# Altium footprint library LINUX.PcbLib: 113 footprints (part 3 of 8)
Each footprint in its own frame and in the unit in brackets; x right, y up, seen from the top. Pads: shape width x height; smd on the part's side, far side on the other; paste and mask are expansions set on the pad; w line width, h text height; cw(c..) or ccw(c..) is an arc to the next point about the centre after c.
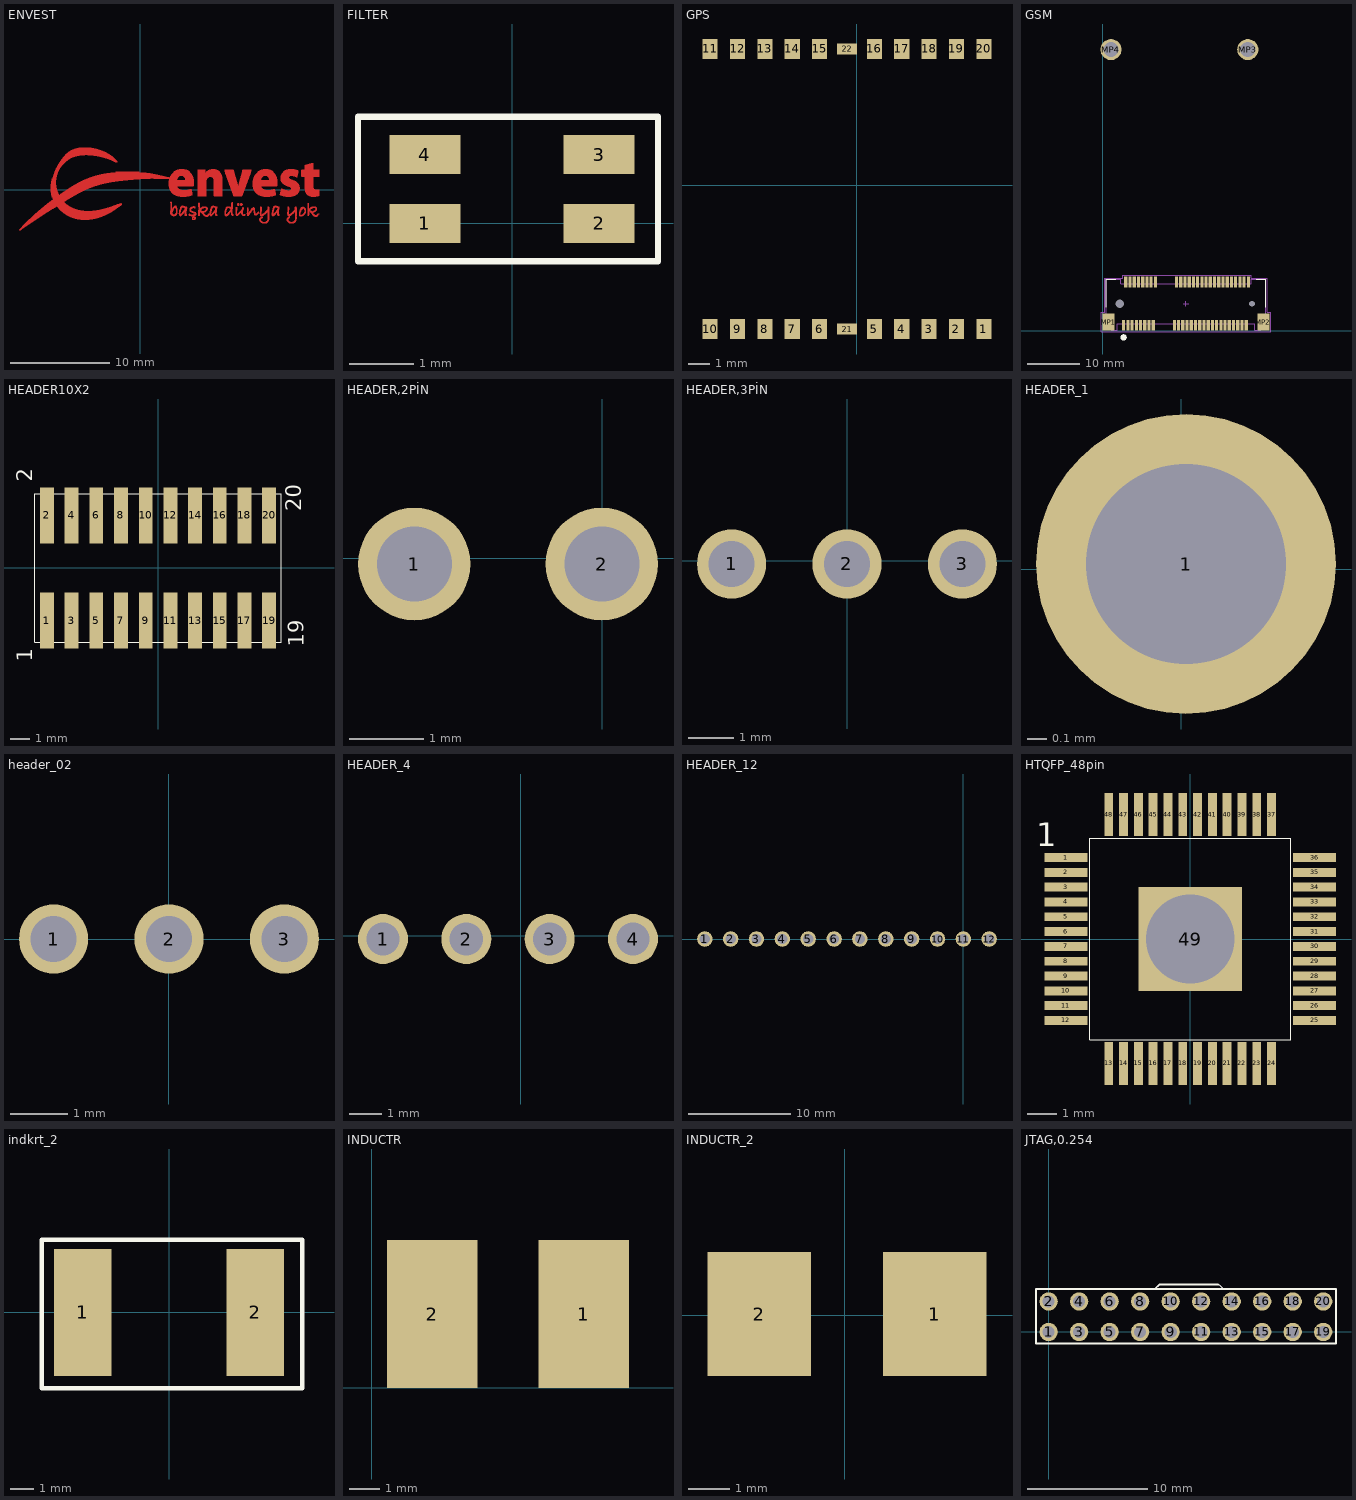
[diagram p2: the footprints below, top view; thin cyan lines are the x and y axes]

## ENVEST [mm]
Top Layer:
  lines w0.051: -12.193,-4.029 -12.041,-4.029 ; -12.142,-3.978 -11.99,-3.978 ; -12.091,-3.928 -11.939,-3.928 ; -12.041,-3.877 -11.888,-3.877 ; -11.99,-3.826 -11.787,-3.826 ; -11.939,-3.775 -11.736,-3.775 ; -11.888,-3.724 -11.634,-3.724 ; -11.888,-3.674 -11.583,-3.674 ; -11.837,-3.623 -11.482,-3.623 ; -11.787,-3.572 -11.431,-3.572 ; -11.736,-3.521 -11.329,-3.521 ; -11.685,-3.47 -11.279,-3.47 ; -11.634,-3.42 -11.177,-3.42 ; -11.583,-3.369 -11.126,-3.369 ; -11.533,-3.318 -11.025,-3.318 ; -11.482,-3.267 -10.974,-3.267 ; -11.431,-3.216 -10.872,-3.216 ; -11.38,-3.166 -10.821,-3.166 ; -11.329,-3.115 -10.72,-3.115 ; -11.279,-3.064 -10.669,-3.064 ; -11.228,-3.013 -10.567,-3.013 ; -11.177,-2.962 -10.517,-2.962 ; -11.075,-2.912 -10.415,-2.912 ; -11.025,-2.861 -10.364,-2.861 ; -10.974,-2.81 -10.263,-2.81 ; -10.923,-2.759 -10.212,-2.759 ; -10.872,-2.708 -10.11,-2.708 ; -10.821,-2.658 -10.059,-2.658 ; -10.771,-2.607 -9.958,-2.607 ; -10.72,-2.556 -9.907,-2.556 ; -10.669,-2.505 -9.805,-2.505 ; -10.618,-2.454 -9.755,-2.454 ; -10.567,-2.404 -9.653,-2.404 ; -10.517,-2.353 -9.602,-2.353 ; -10.415,-2.302 -9.501,-2.302 ; -10.364,-2.251 -9.45,-2.251 ; -10.313,-2.2 -9.348,-2.2 ; -10.263,-2.15 -9.247,-2.15 ; -10.212,-2.099 -9.196,-2.099 ; -10.161,-2.048 -9.094,-2.048 ; -10.059,-1.997 -9.043,-1.997 ; -10.009,-1.946 -8.942,-1.946 ; -9.958,-1.896 -8.891,-1.896 ; -9.907,-1.845 -8.789,-1.845 ; -9.856,-1.794 -8.739,-1.794 ; -9.755,-1.743 -8.637,-1.743 ; -9.704,-1.692 -8.535,-1.692 ; -9.653,-1.642 -8.485,-1.642 ; -9.602,-1.591 -7.215,-1.591 ; -9.551,-1.54 -7.316,-1.54 ; -9.45,-1.489 -7.367,-1.489 ; -9.399,-1.438 -7.469,-1.438 ; -9.348,-1.388 -7.519,-1.388 ; -9.297,-1.337 -7.57,-1.337 ; -9.196,-1.286 -7.621,-1.286 ; -9.145,-1.235 -7.672,-1.235 ; -9.094,-1.184 -7.723,-1.184 ; -8.993,-1.134 -7.672,-1.134 ; -8.993,-0.168 -8.332,-0.168 ; -8.993,-0.118 -8.383,-0.118 ; -8.993,-0.067 -8.383,-0.067 ; -8.993,-0.016 -8.383,-0.016 ; -8.993,0.035 -8.434,0.035 ; -8.993,0.086 -8.434,0.086 ; -8.993,0.136 -8.434,0.136 ; -8.993,0.187 -8.434,0.187 ; -8.993,0.238 -8.485,0.238 ; -8.993,0.289 -8.485,0.289 ; -8.993,0.34 -8.485,0.34 ; -8.993,0.39 -8.485,0.39 ; -8.993,0.441 -8.485,0.441 ; -8.993,0.492 -8.485,0.492 ; -8.993,0.543 -8.535,0.543 ; -8.993,0.594 -8.535,0.594 ; -8.942,-1.083 -7.57,-1.083 ; -8.942,-0.473 -8.231,-0.473 ; -8.942,-0.422 -8.231,-0.422 ; -8.942,-0.372 -8.281,-0.372 ; -8.942,-0.321 -8.281,-0.321 ; -8.942,-0.27 -8.281,-0.27 ; -8.942,-0.219 -8.332,-0.219 ; -8.942,0.644 -8.535,0.644 ; -8.942,0.695 -8.535,0.695 ; -8.942,0.746 -8.535,0.746 ; -8.942,0.797 -8.535,0.797 ; -8.942,0.848 -8.535,0.848 ; -8.942,0.898 -8.535,0.898 ; -8.891,-1.032 -7.519,-1.032 ; -8.891,-0.676 -6.91,-0.676 ; -8.891,-0.626 -6.808,-0.626 ; -8.891,-0.575 -6.757,-0.575 ; -8.891,-0.524 -6.656,-0.524 ; -8.891,0.949 -8.535,0.949 ; -8.891,1 -8.535,1 ; -8.891,1.051 -8.535,1.051 ; -8.891,1.102 -8.485,1.102 ; -8.891,1.152 -8.485,1.152 ; -8.84,-0.981 -7.418,-0.981 ; -8.84,-0.829 -7.164,-0.829 ; -8.84,-0.778 -7.113,-0.778 ; -8.84,-0.727 -7.011,-0.727 ; -8.84,1.203 -8.485,1.203 ; -8.84,1.254 -8.485,1.254 ; -8.84,1.305 -8.485,1.305 ; -8.789,-0.93 -7.367,-0.93 ; -8.789,-0.88 -7.265,-0.88 ; -8.789,1.356 -8.485,1.356 ; -8.789,1.406 -8.434,1.406 ; -8.789,1.457 -8.434,1.457 ; -8.739,1.508 -8.434,1.508 ; -8.739,1.559 -8.434,1.559 ; -8.739,1.61 -8.383,1.61 ; -8.688,1.66 -8.383,1.66 ; -8.688,1.711 -8.383,1.711 ; -8.688,1.762 -8.332,1.762 ; -8.637,1.813 -8.332,1.813 ; -8.637,1.864 -8.281,1.864 ; -8.586,1.914 -8.281,1.914 ; -8.586,1.965 -8.231,1.965 ; -8.535,2.016 -8.231,2.016 ; -8.535,2.067 -8.18,2.067 ; -8.535,2.118 -8.18,2.118 ; -8.485,2.168 -8.129,2.168 ; -8.434,2.219 -8.129,2.219 ; -8.434,2.27 -8.078,2.27 ; -8.383,-1.642 -7.164,-1.642 ; -8.383,2.321 -8.027,2.321 ; -8.383,2.372 -7.977,2.372 ; -8.332,-1.692 -7.062,-1.692 ; -8.332,2.422 -7.977,2.422 ; -8.332,2.473 -7.926,2.473 ; -8.281,-1.743 -6.961,-1.743 ; -8.281,2.524 -7.875,2.524 ; -8.281,2.575 -7.824,2.575 ; -8.231,-1.845 -6.757,-1.845 ; -8.231,-1.794 -6.859,-1.794 ; -8.231,2.626 -7.773,2.626 ; -8.18,-1.896 -6.605,-1.896 ; -8.18,2.676 -7.723,2.676 ; -8.18,2.727 -7.672,2.727 ; -8.129,-1.946 -6.453,-1.946 ; -8.129,-0.473 -6.554,-0.473 ; -8.129,2.778 -7.621,2.778 ; -8.078,-1.997 -6.3,-1.997 ; -8.078,-0.422 -6.453,-0.422 ; -8.078,2.829 -7.57,2.829 ; -8.078,2.88 -7.519,2.88 ; -8.027,-2.048 -6.046,-2.048 ; -8.027,-0.372 -6.402,-0.372 ; -8.027,2.93 -7.469,2.93 ; -7.977,-2.099 -5.691,-2.099 ; -7.977,2.981 -7.367,2.981 ; -7.977,3.032 -7.316,3.032 ; -7.926,-0.321 -6.3,-0.321 ; -7.926,3.083 -7.265,3.083 ; -7.875,-2.15 -2.846,-2.15 ; -7.875,-0.27 -6.199,-0.27 ; -7.875,3.134 -7.164,3.134 ; -7.824,-2.2 -2.897,-2.2 ; -7.824,3.184 -7.113,3.184 ; -7.824,3.235 -7.011,3.235 ; -7.773,-2.251 -2.998,-2.251 ; -7.773,-0.219 -6.097,-0.219 ; -7.773,3.286 -6.91,3.286 ; -7.723,-2.302 -3.1,-2.302 ; -7.723,-0.168 -5.995,-0.168 ; -7.723,3.337 -6.757,3.337 ; -7.672,3.388 -6.605,3.388 ; -7.621,-2.353 -3.201,-2.353 ; -7.621,-0.118 -5.894,-0.118 ; -7.621,3.438 -6.402,3.438 ; -7.57,-2.404 -3.303,-2.404 ; -7.57,-0.067 -5.792,-0.067 ; -7.57,3.489 -6.148,3.489 ; -7.57,3.54 -5.589,3.54 ; -7.519,3.591 -3.1,3.591 ; -7.469,-2.454 -3.405,-2.454 ; -7.469,-0.016 -5.691,-0.016 ; -7.469,3.642 -3.201,3.642 ; -7.418,-2.505 -3.506,-2.505 ; -7.418,0.035 -5.589,0.035 ; -7.367,3.692 -3.303,3.692 ; -7.316,-2.556 -3.608,-2.556 ; -7.316,0.086 -5.487,0.086 ; -7.316,3.743 -3.354,3.743 ; -7.265,0.136 -5.335,0.136 ; -7.265,3.794 -3.455,3.794 ; -7.215,-2.607 -3.76,-2.607 ; -7.215,3.845 -3.557,3.845 ; -7.164,0.187 -5.233,0.187 ; -7.113,-2.658 -3.862,-2.658 ; -7.113,0.238 -5.132,0.238 ; -7.113,3.896 -3.709,3.896 ; -7.062,3.946 -3.811,3.946 ; -7.011,-2.708 -4.014,-2.708 ; -7.011,0.289 -4.979,0.289 ; -6.961,0.34 -4.827,0.34 ; -6.961,3.997 -3.963,3.997 ; -6.859,-2.759 -4.167,-2.759 ; -6.859,0.39 -4.725,0.39 ; -6.859,4.048 -4.116,4.048 ; -6.757,0.441 -4.573,0.441 ; -6.707,-2.81 -4.319,-2.81 ; -6.707,0.492 -4.37,0.492 ; -6.707,4.099 -4.268,4.099 ; -6.605,0.543 -4.217,0.543 ; -6.605,4.15 -4.421,4.15 ; -6.554,-2.861 -4.522,-2.861 ; -6.503,0.594 -4.065,0.594 ; -6.402,0.644 -3.862,0.644 ; -6.402,4.2 -4.675,4.2 ; -6.351,-2.912 -4.776,-2.912 ; -6.351,0.695 -3.659,0.695 ; -6.249,0.746 -3.405,0.746 ; -6.199,4.251 -4.929,4.251 ; -6.148,0.797 -3.151,0.797 ; -6.046,0.848 -2.897,0.848 ; -5.995,-2.962 -5.132,-2.962 ; -5.945,0.898 -2.541,0.898 ; -5.843,0.949 -2.185,0.949 ; -5.741,1 -1.779,1 ; -5.64,1.051 -1.271,1.051 ; -5.487,1.102 -0.712,1.102 ; -5.386,1.152 -0.001,1.152 ; -5.284,3.54 -3.049,3.54 ; -5.233,1.203 1.015,1.203 ; -5.132,1.254 2.945,1.254 ; -4.979,1.305 2.895,1.305 ; -4.827,1.356 2.641,1.356 ; -4.776,-2.099 -2.744,-2.099 ; -4.675,1.406 2.437,1.406 ; -4.675,3.489 -2.947,3.489 ; -4.522,1.457 2.234,1.457 ; -4.37,-2.048 -2.693,-2.048 ; -4.319,1.508 1.98,1.508 ; -4.319,3.438 -2.897,3.438 ; -4.116,1.559 1.777,1.559 ; -4.065,-1.997 -2.592,-1.997 ; -4.065,3.388 -2.795,3.388 ; -3.913,1.61 1.523,1.61 ; -3.862,-1.946 -2.541,-1.946 ; -3.862,3.337 -2.744,3.337 ; -3.659,-1.896 -2.439,-1.896 ; -3.659,1.66 1.269,1.66 ; -3.659,3.286 -2.693,3.286 ; -3.506,3.235 -2.643,3.235 ; -3.455,-1.845 -2.389,-1.845 ; -3.354,1.711 1.015,1.711 ; -3.303,-1.794 -2.338,-1.794 ; -3.303,3.184 -2.592,3.184 ; -3.151,3.134 -2.541,3.134 ; -3.1,-1.743 -2.236,-1.743 ; -3.049,3.083 -2.49,3.083 ; -2.947,-1.692 -2.185,-1.692 ; -2.947,1.762 0.609,1.762 ; -2.897,3.032 -2.439,3.032 ; -2.795,-1.642 -2.135,-1.642 ; -2.795,2.981 -2.389,2.981 ; -2.693,-1.591 -2.084,-1.591 ; -2.693,2.93 -2.338,2.93 ; -2.592,2.88 -2.287,2.88 ; -2.541,-1.54 -1.982,-1.54 ; -2.49,2.829 -2.287,2.829 ; -2.439,1.813 -0.103,1.813 ; -2.389,-1.489 -1.931,-1.489 ; -2.287,-1.438 -1.881,-1.438 ; -2.135,-1.388 -1.881,-1.388 ; -1.982,-1.337 -1.931,-1.337 ; 1.371,1.203 2.895,1.203 ; 2.895,0.441 5.333,0.441 ; 2.895,0.492 5.384,0.492 ; 2.895,0.543 5.384,0.543 ; 2.895,0.594 5.384,0.594 ; 2.895,0.644 5.384,0.644 ; 2.895,0.695 5.384,0.695 ; 2.895,0.746 5.384,0.746 ; 2.895,0.797 5.384,0.797 ; 2.895,0.848 5.384,0.848 ; 2.895,0.898 5.384,0.898 ; 2.895,0.949 5.384,0.949 ; 2.945,0.238 3.809,0.238 ; 2.945,0.289 3.758,0.289 ; 2.945,0.34 3.758,0.34 ; 2.945,0.39 3.707,0.39 ; 2.945,1 5.384,1 ; 2.945,1.051 3.707,1.051 ; 2.945,1.102 3.707,1.102 ; 2.945,1.152 3.758,1.152 ; 2.996,0.086 4.012,0.086 ; 2.996,0.136 3.911,0.136 ; 2.996,0.187 3.86,0.187 ; 2.996,1.203 3.758,1.203 ; 2.996,1.254 3.809,1.254 ; 2.996,1.305 3.809,1.305 ; 3.047,-2.353 3.25,-2.353 ; 3.047,-2.302 3.25,-2.302 ; 3.047,-2.251 3.25,-2.251 ; 3.047,-2.2 3.25,-2.2 ; 3.047,-2.15 3.301,-2.15 ; 3.047,-2.099 3.301,-2.099 ; 3.047,-1.235 3.199,-1.235 ; 3.047,-0.016 5.181,-0.016 ; 3.047,0.035 4.165,0.035 ; 3.047,1.356 3.86,1.356 ; 3.047,1.406 3.911,1.406 ; 3.098,-2.454 3.352,-2.454 ; 3.098,-2.404 3.301,-2.404 ; 3.098,-2.048 3.352,-2.048 ; 3.098,-1.997 3.199,-1.997 ; 3.098,-1.946 3.199,-1.946 ; 3.098,-1.896 3.199,-1.896 ; 3.098,-1.845 3.199,-1.845 ; 3.098,-1.794 3.199,-1.794 ; 3.098,-1.743 3.199,-1.743 ; 3.098,-1.692 3.199,-1.692 ; 3.098,-1.642 3.199,-1.642 ; 3.098,-1.591 3.199,-1.591 ; 3.098,-1.54 3.199,-1.54 ; 3.098,-1.489 3.199,-1.489 ; 3.098,-1.438 3.199,-1.438 ; 3.098,-1.388 3.199,-1.388 ; 3.098,-1.337 3.199,-1.337 ; 3.098,-1.286 3.199,-1.286 ; 3.098,-1.184 3.149,-1.184 ; 3.098,-0.067 5.181,-0.067 ; 3.098,1.457 3.961,1.457 ; 3.149,-0.168 5.181,-0.168 ; 3.149,-0.118 5.181,-0.118 ; 3.149,1.508 5.231,1.508 ; 3.149,1.559 5.181,1.559 ; 3.199,-2.556 3.606,-2.556 ; 3.199,-2.505 3.657,-2.505 ; 3.199,-0.219 5.231,-0.219 ; 3.199,1.61 5.181,1.61 ; 3.25,-1.997 3.352,-1.997 ; 3.25,-1.946 3.352,-1.946 ; 3.25,-1.896 3.403,-1.896 ; 3.25,-0.27 5.231,-0.27 ; 3.25,1.66 5.13,1.66 ; 3.301,-1.845 3.403,-1.845 ; 3.301,-1.794 3.453,-1.794 ; 3.301,-0.321 5.231,-0.321 ; 3.301,1.711 5.079,1.711 ; 3.352,-2.607 3.453,-2.607 ; 3.352,-1.743 3.504,-1.743 ; 3.352,-0.372 5.231,-0.372 ; 3.352,1.762 5.028,1.762 ; 3.403,-1.692 3.707,-1.692 ; 3.403,1.813 4.977,1.813 ; 3.453,-1.642 3.657,-1.642 ; 3.453,-0.422 5.231,-0.422 ; 3.453,1.864 4.927,1.864 ; 3.504,-2.454 3.707,-2.454 ; 3.504,-1.591 3.657,-1.591 ; 3.555,-2.404 3.707,-2.404 ; 3.555,-1.743 3.707,-1.743 ; 3.555,-0.473 5.231,-0.473 ; 3.555,1.914 4.876,1.914 ; 3.606,-2.353 3.758,-2.353 ; 3.606,-1.845 3.758,-1.845 ; 3.606,-1.794 3.707,-1.794 ; 3.657,-2.302 3.758,-2.302 ; 3.657,-2.251 3.758,-2.251 ; 3.657,-2.2 3.758,-2.2 ; 3.657,-2.15 3.758,-2.15 ; 3.657,-2.099 3.758,-2.099 ; 3.657,-2.048 3.758,-2.048 ; 3.657,-1.997 3.758,-1.997 ; 3.657,-1.946 3.758,-1.946 ; 3.657,-1.896 3.758,-1.896 ; 3.657,-0.524 5.079,-0.524 ; 3.657,1.965 4.774,1.965 ; 3.758,2.016 4.673,2.016 ; 3.809,-0.575 4.927,-0.575 ; 3.911,-2.353 4.063,-2.353 ; 3.961,-2.505 4.215,-2.505 ; 3.961,-2.454 4.266,-2.454 ; 3.961,-2.404 4.063,-2.404 ; 3.961,-2.302 4.063,-2.302 ; 3.961,-2.251 4.063,-2.251 ; 3.961,-2.2 4.063,-2.2 ; 3.961,-2.15 4.114,-2.15 ; 3.961,-2.099 4.114,-2.099 ; 3.961,-2.048 4.114,-2.048 ; 3.961,2.067 4.469,2.067 ; 4.012,-2.556 4.165,-2.556 ; 4.012,-1.997 4.114,-1.997 ; 4.012,-1.946 4.165,-1.946 ; 4.063,-2.607 4.114,-2.607 ; 4.063,-1.896 4.165,-1.896 ; 4.063,-1.845 4.165,-1.845 ; 4.063,-1.794 4.215,-1.794 ; 4.063,-1.743 4.266,-1.743 ; 4.063,-0.626 4.622,-0.626 ; 4.114,-1.692 4.673,-1.692 ; 4.165,-2.404 4.317,-2.404 ; 4.165,-1.642 4.52,-1.642 ; 4.215,-2.353 4.368,-2.353 ; 4.215,-1.591 4.368,-1.591 ; 4.266,-2.302 4.419,-2.302 ; 4.266,-2.251 4.419,-2.251 ; 4.317,-2.2 4.469,-2.2 ; 4.368,-2.15 4.622,-2.15 ; 4.368,1.457 5.231,1.457 ; 4.419,-2.099 4.622,-2.099 ; 4.419,-2.048 4.673,-2.048 ; 4.419,-1.743 4.673,-1.743 ; 4.419,1.406 5.282,1.406 ; 4.469,-1.997 4.673,-1.997 ; 4.469,1.356 5.282,1.356 ; 4.52,-2.556 4.673,-2.556 ; 4.52,-2.505 4.673,-2.505 ; 4.52,-2.454 4.673,-2.454 ; 4.52,-2.404 4.622,-2.404 ; 4.52,-2.353 4.622,-2.353 ; 4.52,-2.302 4.622,-2.302 ; 4.52,-2.251 4.622,-2.251 ; 4.52,-2.2 4.622,-2.2 ; 4.52,-1.946 4.673,-1.946 ; 4.52,-1.896 4.673,-1.896 ; 4.52,-1.794 4.723,-1.794 ; 4.52,1.305 5.333,1.305 ; 4.571,-1.845 4.673,-1.845 ; 4.571,1.051 5.384,1.051 ; 4.571,1.102 5.384,1.102 ; 4.571,1.152 5.333,1.152 ; 4.571,1.203 5.333,1.203 ; 4.571,1.254 5.333,1.254 ; 4.774,0.035 5.181,0.035 ; 4.876,-2.505 5.587,-2.505 ; 4.876,-2.454 5.028,-2.454 ; 4.927,-2.556 5.536,-2.556 ; 4.927,-2.404 4.977,-2.404 ; 4.977,-2.099 5.181,-2.099 ; 4.977,-2.048 5.079,-2.048 ; 4.977,-1.997 5.079,-1.997 ; 4.977,-1.946 5.079,-1.946 ; 4.977,-1.896 5.13,-1.896 ; 4.977,-1.845 5.181,-1.845 ; 4.977,0.086 5.13,0.086 ; 5.028,-2.15 5.282,-2.15 ; 5.028,-1.794 5.282,-1.794 ; 5.079,-1.743 5.536,-1.743 ; 5.13,-2.607 5.181,-2.607 ; 5.13,-2.2 5.435,-2.2 ; 5.181,-1.692 5.536,-1.692 ; 5.231,-2.962 5.485,-2.962 ; 5.231,-2.912 5.587,-2.912 ; 5.231,-2.81 5.282,-2.81 ; 5.231,-2.759 5.587,-2.759 ; 5.231,-2.708 5.536,-2.708 ; 5.231,-2.251 5.587,-2.251 ; 5.282,-2.658 5.435,-2.658 ; 5.282,-2.607 5.384,-2.607 ; 5.333,-2.302 5.587,-2.302 ; 5.333,-1.642 5.435,-1.642 ; 5.384,-2.454 5.638,-2.454 ; 5.435,-2.861 5.587,-2.861 ; 5.435,-1.794 5.536,-1.794 ; 5.485,-2.81 5.587,-2.81 ; 5.485,-2.353 5.638,-2.353 ; 5.536,-2.404 5.638,-2.404 ; 5.79,-0.575 6.654,-0.575 ; 5.79,-0.524 6.654,-0.524 ; 5.79,-0.473 6.654,-0.473 ; 5.79,-0.422 6.654,-0.422 ; 5.79,-0.372 6.654,-0.372 ; 5.79,-0.321 6.654,-0.321 ; 5.79,-0.27 6.654,-0.27 ; 5.79,-0.219 6.654,-0.219 ; 5.79,-0.168 6.654,-0.168 ; 5.79,-0.118 6.654,-0.118 ; 5.79,-0.067 6.654,-0.067 ; 5.79,-0.016 6.654,-0.016 ; 5.79,0.035 6.654,0.035 ; 5.79,0.086 6.654,0.086 ; 5.79,0.136 6.654,0.136 ; 5.79,0.187 6.654,0.187 ; 5.79,0.238 6.654,0.238 ; 5.79,0.289 6.654,0.289 ; 5.79,0.34 6.654,0.34 ; 5.79,0.39 6.654,0.39 ; 5.79,0.441 6.654,0.441 ; 5.79,0.492 6.654,0.492 ; 5.79,0.543 6.654,0.543 ; 5.79,0.594 6.654,0.594 ; 5.79,0.644 6.654,0.644 ; 5.79,0.695 6.654,0.695 ; 5.79,0.746 6.654,0.746 ; 5.79,0.797 6.654,0.797 ; 5.79,0.848 6.654,0.848 ; 5.79,0.898 6.654,0.898 ; 5.79,0.949 6.654,0.949 ; 5.79,1 6.654,1 ; 5.79,1.051 6.654,1.051 ; 5.79,1.102 6.705,1.102 ; 5.79,1.152 6.705,1.152 ; 5.79,1.203 6.755,1.203 ; 5.79,1.254 6.755,1.254 ; 5.79,1.305 6.857,1.305 ; 5.79,1.356 6.908,1.356 ; 5.79,1.406 8.229,1.406 ; 5.79,1.457 8.229,1.457 ; 5.79,1.508 8.229,1.508 ; 5.79,1.559 8.178,1.559 ; 5.79,1.61 8.178,1.61 ; 5.79,1.66 8.127,1.66 ; 5.79,1.711 8.127,1.711 ; 5.79,1.762 6.552,1.762 ; 5.79,1.813 6.552,1.813 ; 5.79,1.864 6.552,1.864 ; 5.79,1.914 6.552,1.914 ; 5.79,1.965 6.552,1.965 ; 5.79,2.016 6.552,2.016 ; 5.841,-2.556 5.993,-2.556 ; 5.841,-2.505 5.993,-2.505 ; 5.841,-2.454 5.993,-2.454 ; 5.841,-2.404 5.993,-2.404 ; 5.841,-2.353 5.993,-2.353 ; 5.841,-2.302 5.993,-2.302 ; 5.841,-2.251 5.993,-2.251 ; 5.841,-2.2 6.044,-2.2 ; 5.841,-2.15 6.044,-2.15 ; 5.841,-2.099 6.044,-2.099 ; 5.841,-2.048 6.095,-2.048 ; 5.841,-1.642 5.993,-1.642 ; 5.841,-1.591 5.993,-1.591 ; 5.841,-1.54 5.993,-1.54 ; 5.841,-1.489 5.993,-1.489 ; 5.841,-1.438 5.993,-1.438 ; 5.841,-1.388 5.993,-1.388 ; 5.841,-1.337 5.993,-1.337 ; 5.892,-1.997 6.095,-1.997 ; 5.892,-1.946 6.146,-1.946 ; 5.892,-1.896 5.993,-1.896 ; 5.892,-1.845 5.993,-1.845 ; 5.892,-1.794 5.993,-1.794 ; 5.892,-1.743 5.993,-1.743 ; 5.892,-1.692 5.993,-1.692 ; 5.892,-1.286 5.943,-1.286 ; 6.044,-1.896 6.197,-1.896 ; 6.044,-1.845 6.247,-1.845 ; 6.095,-2.2 6.552,-2.2 ; 6.095,-2.15 6.298,-2.15 ; 6.095,-2.099 6.197,-2.099 ; 6.095,-1.794 6.4,-1.794 ; 6.146,-2.251 6.4,-2.251 ; 6.197,-2.302 6.349,-2.302 ; 6.197,-1.743 6.755,-1.743 ; 6.247,-2.353 6.4,-2.353 ; 6.247,-1.692 6.654,-1.692 ; 6.298,-2.404 6.451,-2.404 ; 6.349,-2.505 6.552,-2.505 ; 6.349,-2.454 6.501,-2.454 ; 6.349,-2.15 6.603,-2.15 ; 6.451,-2.556 6.908,-2.556 ; 6.501,-2.607 6.857,-2.607 ; 6.501,-2.099 6.654,-2.099 ; 6.552,-2.048 6.705,-2.048 ; 6.603,-2.658 6.806,-2.658 ; 6.603,-1.997 6.755,-1.997 ; 6.603,-1.794 6.755,-1.794 ; 6.603,1.762 8.076,1.762 ; 6.654,-1.946 6.755,-1.946 ; 6.654,-1.896 6.806,-1.896 ; 6.654,-1.845 6.806,-1.845 ; 6.654,1.813 8.025,1.813 ; 6.705,1.864 7.975,1.864 ; 6.806,-2.505 6.908,-2.505 ; 6.806,-2.454 6.959,-2.454 ; 6.806,1.914 7.924,1.914 ; 6.857,-2.404 6.959,-2.404 ; 6.857,1.965 7.822,1.965 ; 6.959,2.016 7.721,2.016 ; 7.009,-2.505 7.263,-2.505 ; 7.009,-2.454 7.111,-2.454 ; 7.009,-2.404 7.111,-2.404 ; 7.009,-2.353 7.111,-2.353 ; 7.009,-2.302 7.111,-2.302 ; 7.009,-2.251 7.162,-2.251 ; 7.009,-2.2 7.162,-2.2 ; 7.009,-2.15 7.162,-2.15 ; 7.06,-2.556 7.213,-2.556 ; 7.06,-2.099 7.162,-2.099 ; 7.06,-2.048 7.213,-2.048 ; 7.06,-1.997 7.213,-1.997 ; 7.06,-1.946 7.213,-1.946 ; 7.111,-2.607 7.162,-2.607 ; 7.111,-1.896 7.213,-1.896 ; 7.111,-1.845 7.263,-1.845 ; 7.111,-1.794 7.263,-1.794 ; 7.162,-2.454 7.314,-2.454 ; 7.162,-1.743 7.314,-1.743 ; 7.162,-1.692 7.771,-1.692 ; 7.162,2.067 7.568,2.067 ; 7.213,-2.404 7.365,-2.404 ; 7.213,-1.642 7.568,-1.642 ; 7.213,1.356 8.279,1.356 ; 7.263,-2.353 7.416,-2.353 ; 7.314,-2.302 7.467,-2.302 ; 7.314,-1.591 7.416,-1.591 ; 7.314,1.305 8.279,1.305 ; 7.365,-2.251 7.517,-2.251 ; 7.365,1.203 8.279,1.203 ; 7.365,1.254 8.279,1.254 ; 7.416,-2.2 7.517,-2.2 ; 7.416,-2.15 7.721,-2.15 ; 7.416,-0.524 8.279,-0.524 ; 7.416,-0.473 8.279,-0.473 ; 7.416,-0.422 8.279,-0.422 ; 7.416,-0.372 8.279,-0.372 ; 7.416,-0.321 8.279,-0.321 ; 7.416,-0.27 8.279,-0.27 ; 7.416,-0.219 8.279,-0.219 ; 7.416,-0.168 8.279,-0.168 ; 7.416,-0.118 8.279,-0.118 ; 7.416,-0.067 8.279,-0.067 ; 7.416,-0.016 8.279,-0.016 ; 7.416,0.035 8.279,0.035 ; 7.416,0.086 8.279,0.086 ; 7.416,0.136 8.279,0.136 ; 7.416,0.187 8.279,0.187 ; 7.416,0.238 8.279,0.238 ; 7.416,0.289 8.279,0.289 ; 7.416,0.34 8.279,0.34 ; 7.416,0.39 8.279,0.39 ; 7.416,0.441 8.279,0.441 ; 7.416,0.492 8.279,0.492 ; 7.416,0.543 8.279,0.543 ; 7.416,0.594 8.279,0.594 ; 7.416,0.644 8.279,0.644 ; 7.416,0.695 8.279,0.695 ; 7.416,0.746 8.279,0.746 ; 7.416,0.797 8.279,0.797 ; 7.416,0.848 8.279,0.848 ; 7.416,0.898 8.279,0.898 ; 7.416,0.949 8.279,0.949 ; 7.416,1 8.279,1 ; 7.416,1.051 8.279,1.051 ; 7.416,1.102 8.279,1.102 ; 7.416,1.152 8.279,1.152 ; 7.467,-2.099 7.721,-2.099 ; 7.467,-0.575 8.279,-0.575 ; 7.517,-2.048 7.721,-2.048 ; 7.517,-1.743 7.771,-1.743 ; 7.568,-2.505 7.771,-2.505 ; 7.568,-2.454 7.721,-2.454 ; 7.568,-2.404 7.67,-2.404 ; 7.568,-2.353 7.67,-2.353 ; 7.568,-2.302 7.67,-2.302 ; 7.568,-2.251 7.67,-2.251 ; 7.568,-2.2 7.721,-2.2 ; 7.568,-1.997 7.721,-1.997 ; 7.568,-1.946 7.721,-1.946 ; 7.568,-1.896 7.721,-1.896 ; 7.568,-1.794 7.771,-1.794 ; 7.619,-2.556 7.771,-2.556 ; 7.619,-1.845 7.721,-1.845 ; 8.533,-2.505 8.889,-2.505 ; 8.533,-2.454 8.635,-2.454 ; 8.533,-2.404 8.635,-2.404 ; 8.533,-2.353 8.635,-2.353 ; 8.533,-2.302 8.635,-2.302 ; 8.533,-2.251 8.635,-2.251 ; 8.533,-2.2 8.635,-2.2 ; 8.533,-2.15 8.686,-2.15 ; 8.533,-2.099 8.686,-2.099 ; 8.533,1.864 9.448,1.864 ; 8.533,1.914 9.448,1.914 ; 8.533,1.965 9.448,1.965 ; 8.533,2.016 9.397,2.016 ; 8.584,-2.556 8.838,-2.556 ; 8.584,-2.048 8.686,-2.048 ; 8.584,-1.997 8.686,-1.997 ; 8.584,-1.946 8.737,-1.946 ; 8.584,1.711 9.499,1.711 ; 8.584,1.762 9.499,1.762 ; 8.584,1.813 9.499,1.813 ; 8.635,-2.607 8.737,-2.607 ; 8.635,-1.896 8.737,-1.896 ; 8.635,-1.845 8.787,-1.845 ; 8.635,-1.794 8.787,-1.794 ; 8.635,1.61 9.549,1.61 ; 8.635,1.66 9.549,1.66 ; 8.686,-2.454 8.94,-2.454 ; 8.686,-1.743 9.143,-1.743 ; 8.686,1.457 9.6,1.457 ; 8.686,1.508 9.549,1.508 ; 8.686,1.559 9.549,1.559 ; 8.737,-1.692 9.092,-1.692 ; 8.737,1.305 9.651,1.305 ; 8.737,1.356 9.6,1.356 ; 8.737,1.406 9.6,1.406 ; 8.787,-2.404 8.991,-2.404 ; 8.787,1.152 9.702,1.152 ; 8.787,1.203 9.651,1.203 ; 8.787,1.254 9.651,1.254 ; 8.838,-2.353 8.991,-2.353 ; 8.838,1.051 9.702,1.051 ; 8.838,1.102 9.702,1.102 ; 8.889,-2.302 9.041,-2.302 ; 8.889,-2.251 9.092,-2.251 ; 8.889,0.898 9.753,0.898 ; 8.889,0.949 9.753,0.949 ; 8.889,1 9.702,1 ; 8.94,0.746 9.803,0.746 ; 8.94,0.797 9.803,0.797 ; 8.94,0.848 9.753,0.848 ; 8.991,-2.2 9.092,-2.2 ; 8.991,-2.15 9.143,-2.15 ; 8.991,-1.794 9.346,-1.794 ; 8.991,0.594 9.854,0.594 ; 8.991,0.644 9.803,0.644 ; 8.991,0.695 9.803,0.695 ; 9.041,-2.099 9.295,-2.099 ; 9.041,0.492 9.854,0.492 ; 9.041,0.543 9.854,0.543 ; 9.092,-2.048 9.295,-2.048 ; 9.092,-1.997 9.295,-1.997 ; 9.092,-1.845 9.346,-1.845 ; 9.092,0.34 10.616,0.34 ; 9.092,0.39 9.854,0.39 ; 9.092,0.441 9.854,0.441 ; 9.143,-1.946 9.295,-1.946 ; 9.143,-1.896 9.295,-1.896 ; 9.143,0.187 10.565,0.187 ; 9.143,0.238 10.616,0.238 ; 9.143,0.289 10.616,0.289 ; 9.194,-2.454 9.397,-2.454 ; 9.194,-2.404 9.346,-2.404 ; 9.194,-2.353 9.295,-2.353 ; 9.194,-2.302 9.295,-2.302 ; 9.194,-2.251 9.295,-2.251 ; 9.194,-2.2 9.295,-2.2 ; 9.194,-2.15 9.295,-2.15 ; 9.194,-1.743 9.346,-1.743 ; 9.194,-1.692 9.346,-1.692 ; 9.194,-1.642 9.346,-1.642 ; 9.194,-1.591 9.346,-1.591 ; 9.194,-1.54 9.346,-1.54 ; 9.194,-1.489 9.346,-1.489 ; 9.194,-1.438 9.346,-1.438 ; 9.194,-1.388 9.346,-1.388 ; 9.194,-1.337 9.346,-1.337 ; 9.194,0.035 10.515,0.035 ; 9.194,0.086 10.515,0.086 ; 9.194,0.136 10.565,0.136 ; 9.245,-2.505 9.397,-2.505 ; 9.245,-1.286 9.346,-1.286 ; 9.245,-1.235 9.346,-1.235 ; 9.245,-0.067 10.464,-0.067 ; 9.245,-0.016 10.515,-0.016 ; 9.295,-2.556 9.397,-2.556 ; 9.295,-0.219 10.413,-0.219 ; 9.295,-0.168 10.464,-0.168 ; 9.295,-0.118 10.464,-0.118 ; 9.346,-0.372 10.362,-0.372 ; 9.346,-0.321 10.362,-0.321 ; 9.346,-0.27 10.413,-0.27 ; 9.397,-0.524 10.311,-0.524 ; 9.397,-0.473 10.311,-0.473 ; 9.397,-0.422 10.362,-0.422 ; 9.448,-0.575 10.261,-0.575 ; 9.651,-2.454 9.956,-2.454 ; 9.651,-2.404 9.753,-2.404 ; 9.651,-2.353 9.753,-2.353 ; 9.651,-2.302 9.753,-2.302 ; 9.651,-2.251 9.753,-2.251 ; 9.651,-2.2 9.753,-2.2 ; 9.651,-2.15 9.753,-2.15 ; 9.651,-2.099 9.753,-2.099 ; 9.651,-2.048 9.753,-2.048 ; 9.651,-1.997 9.803,-1.997 ; 9.651,-1.946 9.803,-1.946 ; 9.651,-1.896 9.803,-1.896 ; 9.651,-1.845 9.803,-1.845 ; 9.651,-1.794 9.803,-1.794 ; 9.651,-1.743 9.803,-1.743 ; 9.702,-2.556 9.854,-2.556 ; 9.702,-2.505 9.905,-2.505 ; 9.803,-1.489 10.007,-1.489 ; 9.803,-1.438 10.007,-1.438 ; 9.803,-1.388 10.007,-1.388 ; 9.854,-2.404 10.007,-2.404 ; 9.854,-1.54 9.956,-1.54 ; 9.854,-1.337 9.956,-1.337 ; 9.905,-2.353 10.057,-2.353 ; 9.905,0.39 10.667,0.39 ; 9.905,0.441 10.667,0.441 ; 9.956,-2.302 10.108,-2.302 ; 9.956,0.492 10.667,0.492 ; 9.956,0.543 10.718,0.543 ; 9.956,0.594 10.718,0.594 ; 9.956,0.644 10.718,0.644 ; 10.007,-2.251 10.159,-2.251 ; 10.007,0.695 10.769,0.695 ; 10.007,0.746 10.769,0.746 ; 10.007,0.797 10.819,0.797 ; 10.007,0.848 10.819,0.848 ; 10.057,-2.2 10.362,-2.2 ; 10.057,0.898 10.819,0.898 ; 10.057,0.949 10.87,0.949 ; 10.057,1 10.87,1 ; 10.057,1.051 10.87,1.051 ; 10.108,-2.15 10.362,-2.15 ; 10.108,-1.489 10.311,-1.489 ; 10.108,-1.438 10.362,-1.438 ; 10.108,-1.388 10.311,-1.388 ; 10.108,1.102 10.921,1.102 ; 10.108,1.152 10.921,1.152 ; 10.108,1.203 10.972,1.203 ; 10.159,-2.099 10.362,-2.099 ; 10.159,-1.54 10.261,-1.54 ; 10.159,-1.337 10.261,-1.337 ; 10.159,1.254 10.972,1.254 ; 10.159,1.305 10.972,1.305 ; 10.159,1.356 11.023,1.356 ; 10.159,1.406 11.023,1.406 ; 10.21,-2.353 10.362,-2.353 ; 10.21,-2.302 10.362,-2.302 ; 10.21,-2.251 10.362,-2.251 ; 10.21,-2.048 10.362,-2.048 ; 10.21,1.457 11.023,1.457 ; 10.21,1.508 11.073,1.508 ; 10.21,1.559 11.073,1.559 ; 10.261,-2.454 10.413,-2.454 ; 10.261,-2.404 10.362,-2.404 ; 10.261,-1.997 10.413,-1.997 ; 10.261,-1.946 10.413,-1.946 ; 10.261,1.61 11.124,1.61 ; 10.261,1.66 11.124,1.66 ; 10.261,1.711 11.124,1.711 ; 10.261,1.762 11.175,1.762 ; 10.311,-2.505 10.616,-2.505 ; 10.311,-1.896 10.464,-1.896 ; 10.311,-1.845 10.464,-1.845 ; 10.311,-1.794 10.464,-1.794 ; 10.311,1.813 11.175,1.813 ; 10.311,1.864 11.175,1.864 ; 10.311,1.914 11.226,1.914 ; 10.311,1.965 11.226,1.965 ; 10.362,-2.556 10.565,-2.556 ; 10.362,-1.743 10.413,-1.743 ; 10.362,2.016 11.226,2.016 ; 10.515,-2.454 10.616,-2.454 ; 10.769,-2.353 11.073,-2.353 ; 10.819,-2.556 10.972,-2.556 ; 10.819,-2.505 10.972,-2.505 ; 10.819,-2.454 11.023,-2.454 ; 10.819,-2.404 11.073,-2.404 ; 10.819,-2.302 10.921,-2.302 ; 10.819,-2.251 10.921,-2.251 ; 10.819,-2.2 10.921,-2.2 ; 10.819,-2.15 10.921,-2.15 ; 10.819,-2.099 10.921,-2.099 ; 10.819,-2.048 10.921,-2.048 ; 10.819,-1.997 10.972,-1.997 ; 10.819,-1.946 10.921,-1.946 ; 10.819,-1.896 10.921,-1.896 ; 10.819,-1.845 10.921,-1.845 ; 10.819,-1.794 10.921,-1.794 ; 10.972,-2.302 11.124,-2.302 ; 11.023,-2.251 11.175,-2.251 ; 11.023,-2.2 11.226,-2.2 ; 11.073,-2.15 11.226,-2.15 ; 11.124,-2.099 11.277,-2.099 ; 11.175,-2.048 11.277,-2.048 ; 11.175,-1.997 11.327,-1.997 ; 11.226,-1.946 11.378,-1.946 ; 11.226,-1.896 11.531,-1.896 ; 11.277,-1.845 11.531,-1.845 ; 11.327,-1.794 11.48,-1.794 ; 11.327,0.39 12.14,0.39 ; 11.327,0.441 13.766,0.441 ; 11.327,0.492 13.817,0.492 ; 11.327,0.543 13.817,0.543 ; 11.327,0.594 13.817,0.594 ; 11.327,0.644 13.817,0.644 ; 11.327,0.695 13.817,0.695 ; 11.327,0.746 13.817,0.746 ; 11.327,0.797 13.817,0.797 ; 11.327,0.848 13.817,0.848 ; 11.327,0.898 13.817,0.898 ; 11.327,0.949 13.817,0.949 ; 11.378,-1.743 11.429,-1.743 ; 11.378,0.187 12.293,0.187 ; 11.378,0.238 12.242,0.238 ; 11.378,0.289 12.191,0.289 ; 11.378,0.34 12.191,0.34 ; 11.378,1 13.817,1 ; 11.378,1.051 12.14,1.051 ; 11.378,1.102 12.14,1.102 ; 11.378,1.152 12.191,1.152 ; 11.429,-2.251 11.581,-2.251 ; 11.429,-2.2 11.581,-2.2 ; 11.429,-2.15 11.531,-2.15 ; 11.429,-2.099 11.531,-2.099 ; 11.429,-2.048 11.531,-2.048 ; 11.429,-1.997 11.531,-1.997 ; 11.429,-1.946 11.531,-1.946 ; 11.429,0.086 12.445,0.086 ; 11.429,0.136 12.343,0.136 ; 11.429,1.203 12.191,1.203 ; 11.429,1.254 12.191,1.254 ; 11.429,1.305 12.242,1.305 ; 11.48,-2.454 11.785,-2.454 ; 11.48,-2.404 11.632,-2.404 ; 11.48,-2.353 11.581,-2.353 ; 11.48,-2.302 11.581,-2.302 ; 11.48,-0.016 13.613,-0.016 ; 11.48,0.035 12.597,0.035 ; 11.48,1.356 12.293,1.356 ; 11.48,1.406 12.343,1.406 ; 11.531,-2.505 11.734,-2.505 ; 11.531,-0.118 13.613,-0.118 ; 11.531,-0.067 13.613,-0.067 ; 11.531,1.457 12.394,1.457 ; 11.531,1.508 13.664,1.508 ; 11.581,-0.168 13.613,-0.168 ; 11.581,1.559 13.613,1.559 ; 11.632,-0.219 13.613,-0.219 ; 11.632,1.61 13.613,1.61 ; 11.683,-2.404 11.835,-2.404 ; 11.683,-0.27 13.664,-0.27 ; 11.683,1.66 13.563,1.66 ; 11.734,-2.353 11.886,-2.353 ; 11.734,-0.321 13.664,-0.321 ; 11.734,1.711 13.512,1.711 ; 11.785,-2.302 11.937,-2.302 ; 11.785,-0.372 13.664,-0.372 ; 11.785,1.762 13.461,1.762 ; 11.835,-2.251 11.937,-2.251 ; 11.835,1.813 13.41,1.813 ; 11.886,-2.2 11.937,-2.2 ; 11.886,-0.422 13.664,-0.422 ; 11.886,1.864 13.359,1.864 ; 11.937,-0.473 13.664,-0.473 ; 11.988,-3.013 12.14,-3.013 ; 11.988,-2.962 12.14,-2.962 ; 11.988,-2.912 12.14,-2.912 ; 11.988,1.914 13.309,1.914 ; 12.039,-3.115 12.191,-3.115 ; 12.039,-3.064 12.14,-3.064 ; 12.039,-2.861 12.191,-2.861 ; 12.039,-2.353 12.191,-2.353 ; 12.039,-2.302 12.191,-2.302 ; 12.089,-3.166 12.242,-3.166 ; 12.089,-2.81 12.293,-2.81 ; 12.089,-2.556 12.394,-2.556 ; 12.089,-2.505 12.445,-2.505 ; 12.089,-2.454 12.191,-2.454 ; 12.089,-2.404 12.191,-2.404 ; 12.089,-2.251 12.191,-2.251 ; 12.089,-2.2 12.191,-2.2 ; 12.089,-2.15 12.191,-2.15 ; 12.089,-2.099 12.242,-2.099 ; 12.089,-2.048 12.242,-2.048 ; 12.089,-1.997 12.242,-1.997 ; 12.089,-1.946 12.242,-1.946 ; 12.089,-1.896 12.242,-1.896 ; 12.089,-1.845 12.242,-1.845 ; 12.089,-1.794 12.242,-1.794 ; 12.089,-1.743 12.242,-1.743 ; 12.089,-1.692 12.191,-1.692 ; 12.089,-0.524 13.512,-0.524 ; 12.089,1.965 13.207,1.965 ; 12.14,-3.216 12.343,-3.216 ; 12.14,-2.759 12.343,-2.759 ; 12.14,-2.607 12.293,-2.607 ; 12.191,-3.267 12.801,-3.267 ; 12.191,2.016 13.105,2.016 ; 12.242,-2.708 12.293,-2.708 ; 12.242,-0.575 13.359,-0.575 ; 12.293,-3.318 12.75,-3.318 ; 12.293,-2.454 12.496,-2.454 ; 12.343,-2.404 12.597,-2.404 ; 12.394,2.067 12.902,2.067 ; 12.445,-2.353 12.648,-2.353 ; 12.445,-0.626 13.055,-0.626 ; 12.496,-2.302 12.699,-2.302 ; 12.597,-2.251 12.75,-2.251 ; 12.597,-2.2 12.801,-2.2 ; 12.648,-3.216 12.851,-3.216 ; 12.648,-2.15 13.004,-2.15 ; 12.699,-3.166 12.902,-3.166 ; 12.699,-2.099 12.851,-2.099 ; 12.75,-2.048 13.004,-2.048 ; 12.801,-3.115 12.902,-3.115 ; 12.801,-3.064 12.953,-3.064 ; 12.801,-1.997 13.004,-1.997 ; 12.801,1.457 13.664,1.457 ; 12.851,-3.013 12.953,-3.013 ; 12.851,-2.962 13.004,-2.962 ; 12.851,-2.912 13.004,-2.912 ; 12.851,-2.861 13.004,-2.861 ; 12.851,-2.81 13.004,-2.81 ; 12.851,-2.759 13.004,-2.759 ; 12.851,-2.708 13.004,-2.708 ; 12.851,-2.658 13.004,-2.658 ; 12.851,-2.607 13.004,-2.607 ; 12.851,-2.556 13.004,-2.556 ; 12.851,-2.505 13.004,-2.505 ; 12.851,-2.454 13.004,-2.454 ; 12.851,-2.404 13.004,-2.404 ; 12.851,-2.353 13.004,-2.353 ; 12.851,-2.302 13.004,-2.302 ; 12.851,-2.251 13.004,-2.251 ; 12.851,-2.2 13.004,-2.2 ; 12.851,-1.946 13.004,-1.946 ; 12.851,-1.896 13.004,-1.896 ; 12.851,-1.845 13.004,-1.845 ; 12.851,-1.794 13.004,-1.794 ; 12.851,-1.743 13.004,-1.743 ; 12.851,-1.692 12.953,-1.692 ; 12.851,1.406 13.715,1.406 ; 12.902,-2.099 13.004,-2.099 ; 12.902,1.356 13.715,1.356 ; 12.953,1.254 13.766,1.254 ; 12.953,1.305 13.766,1.305 ; 13.004,1.051 13.817,1.051 ; 13.004,1.102 13.817,1.102 ; 13.004,1.152 13.766,1.152 ; 13.004,1.203 13.766,1.203 ; 13.207,0.035 13.563,0.035 ; 13.258,-2.505 13.563,-2.505 ; 13.258,-2.454 13.613,-2.454 ; 13.258,-2.404 13.359,-2.404 ; 13.258,-2.353 13.41,-2.353 ; 13.258,-2.302 13.41,-2.302 ; 13.309,-2.556 13.512,-2.556 ; 13.309,-2.251 13.41,-2.251 ; 13.309,-2.2 13.41,-2.2 ; 13.309,-2.15 13.41,-2.15 ; 13.309,-2.099 13.461,-2.099 ; 13.309,-2.048 13.461,-2.048 ; 13.359,-2.607 13.41,-2.607 ; 13.359,-1.997 13.461,-1.997 ; 13.359,-1.946 13.461,-1.946 ; 13.359,-1.896 13.512,-1.896 ; 13.359,-1.845 13.512,-1.845 ; 13.41,-1.794 13.512,-1.794 ; 13.41,-1.743 13.563,-1.743 ; 13.41,-1.692 14.02,-1.692 ; 13.41,0.086 13.563,0.086 ; 13.461,-2.404 13.664,-2.404 ; 13.461,-1.642 13.867,-1.642 ; 13.512,-2.353 13.664,-2.353 ; 13.563,-2.302 13.715,-2.302 ; 13.563,-1.591 13.715,-1.591 ; 13.613,-2.251 13.766,-2.251 ; 13.664,-2.2 13.969,-2.2 ; 13.715,-2.15 13.817,-2.15 ; 13.715,-2.099 13.969,-2.099 ; 13.766,-2.048 13.969,-2.048 ; 13.766,-1.743 14.02,-1.743 ; 13.817,-2.454 14.02,-2.454 ; 13.817,-2.353 13.969,-2.353 ; 13.817,-2.302 13.969,-2.302 ; 13.817,-2.251 13.969,-2.251 ; 13.817,-1.997 13.969,-1.997 ; 13.817,-1.946 13.969,-1.946 ; 13.867,-2.556 14.02,-2.556 ; 13.867,-2.505 14.02,-2.505 ; 13.867,-2.404 13.969,-2.404 ; 13.867,-2.15 13.969,-2.15 ; 13.867,-1.896 14.02,-1.896 ; 13.867,-1.845 14.02,-1.845 ; 13.867,-1.794 14.02,-1.794 ; 14.071,-0.422 15.747,-0.422 ; 14.121,-0.473 15.696,-0.473 ; 14.121,-0.372 15.849,-0.372 ; 14.121,-0.321 15.899,-0.321 ; 14.121,-0.27 15.899,-0.27 ; 14.121,-0.219 15.95,-0.219 ; 14.172,-0.168 16.001,-0.168 ; 14.172,-0.118 16.001,-0.118 ; 14.172,-0.067 16.052,-0.067 ; 14.172,-0.016 14.833,-0.016 ; 14.172,1 15.442,1 ; 14.172,1.051 15.341,1.051 ; 14.172,1.102 15.188,1.102 ; 14.172,1.152 15.087,1.152 ; 14.172,1.203 15.036,1.203 ; 14.172,1.254 14.985,1.254 ; 14.172,1.305 14.985,1.305 ; 14.172,1.356 14.985,1.356 ; 14.172,1.406 15.036,1.406 ; 14.172,1.457 15.087,1.457 ; 14.223,0.035 14.579,0.035 ; 14.223,0.086 14.426,0.086 ; 14.223,0.136 14.325,0.136 ; 14.223,0.898 15.696,0.898 ; 14.223,0.949 15.595,0.949 ; 14.223,1.508 15.849,1.508 ; 14.223,1.559 15.899,1.559 ; 14.274,-0.524 15.595,-0.524 ; 14.274,0.848 15.747,0.848 ; 14.274,1.61 15.899,1.61 ; 14.274,1.66 15.899,1.66 ; 14.325,0.746 15.849,0.746 ; 14.325,0.797 15.798,0.797 ; 14.325,1.711 15.899,1.711 ; 14.375,1.762 15.95,1.762 ; 14.426,-0.575 15.442,-0.575 ; 14.426,0.695 15.899,0.695 ; 14.426,1.813 15.95,1.813 ; 14.477,0.644 15.95,0.644 ; 14.477,1.864 15.95,1.864 ; 14.528,0.594 16.001,0.594 ; 14.528,1.914 15.95,1.914 ; 14.629,0.543 16.001,0.543 ; 14.629,1.965 15.899,1.965 ; 14.68,-0.626 15.239,-0.626 ; 14.731,0.492 16.052,0.492 ; 14.731,2.016 15.747,2.016 ; 14.782,-3.064 14.934,-3.064 ; 14.782,-3.013 14.883,-3.013 ; 14.782,-2.962 14.934,-2.962 ; 14.782,-2.912 14.934,-2.912 ; 14.833,-3.115 14.985,-3.115 ; 14.833,-2.861 14.985,-2.861 ; 14.833,-2.81 15.036,-2.81 ; 14.833,-2.404 14.985,-2.404 ; 14.833,-2.353 14.985,-2.353 ; 14.833,-2.302 14.985,-2.302 ; 14.833,-2.251 14.985,-2.251 ; 14.833,0.441 16.052,0.441 ; 14.883,-3.166 15.036,-3.166 ; 14.883,-2.556 15.188,-2.556 ; 14.883,-2.505 15.239,-2.505 ; 14.883,-2.454 14.985,-2.454 ; 14.883,-2.2 14.985,-2.2 ; 14.883,-2.15 14.985,-2.15 ; 14.883,-2.099 14.985,-2.099 ; 14.883,-2.048 14.985,-2.048 ; 14.883,-1.997 14.985,-1.997 ; 14.883,-1.946 15.036,-1.946 ; 14.883,-1.896 15.036,-1.896 ; 14.883,-1.845 15.036,-1.845 ; 14.883,-1.794 15.036,-1.794 ; 14.883,-1.743 14.985,-1.743 ; 14.883,-1.692 14.985,-1.692 ; 14.934,-3.216 15.137,-3.216 ; 14.934,-2.759 15.087,-2.759 ; 14.934,-2.607 15.087,-2.607 ; 14.934,2.067 15.544,2.067 ; 14.985,-3.267 15.595,-3.267 ; 14.985,0.39 16.052,0.39 ; 15.036,-3.318 15.493,-3.318 ; 15.036,-2.708 15.087,-2.708 ; 15.036,-2.454 15.29,-2.454 ; 15.087,-0.016 16.052,-0.016 ; 15.137,-2.404 15.341,-2.404 ; 15.137,0.34 16.052,0.34 ; 15.188,0.035 16.052,0.035 ; 15.188,0.289 16.103,0.289 ; 15.239,-2.353 15.442,-2.353 ; 15.239,0.086 16.052,0.086 ; 15.239,0.136 16.103,0.136 ; 15.239,0.187 16.103,0.187 ; 15.239,0.238 16.103,0.238 ; 15.29,-2.302 15.493,-2.302 ; 15.341,-2.251 15.544,-2.251 ; 15.391,-3.216 15.645,-3.216 ; 15.391,-2.2 15.544,-2.2 ; 15.442,-2.15 15.595,-2.15 ; 15.442,1.457 15.849,1.457 ; 15.493,-3.166 15.696,-3.166 ; 15.493,-2.099 15.798,-2.099 ; 15.544,-3.115 15.696,-3.115 ; 15.544,-2.048 15.798,-2.048 ; 15.595,-3.064 15.747,-3.064 ; 15.595,-1.997 15.747,-1.997 ; 15.595,-1.946 15.798,-1.946 ; 15.595,-1.896 15.798,-1.896 ; 15.595,-1.794 15.798,-1.794 ; 15.595,-1.743 15.747,-1.743 ; 15.645,-3.013 15.747,-3.013 ; 15.645,-2.962 15.747,-2.962 ; 15.645,-2.912 15.747,-2.912 ; 15.645,-2.861 15.798,-2.861 ; 15.645,-2.81 15.798,-2.81 ; 15.645,-2.759 15.747,-2.759 ; 15.645,-2.708 15.798,-2.708 ; 15.645,-2.658 15.747,-2.658 ; 15.645,-2.607 15.747,-2.607 ; 15.645,-2.556 15.798,-2.556 ; 15.645,-2.505 15.798,-2.505 ; 15.645,-2.454 15.798,-2.454 ; 15.645,-2.404 15.798,-2.404 ; 15.645,-2.353 15.798,-2.353 ; 15.645,-2.302 15.798,-2.302 ; 15.645,-2.251 15.798,-2.251 ; 15.645,-2.2 15.798,-2.2 ; 15.645,-2.15 15.798,-2.15 ; 15.645,-1.845 15.798,-1.845 ; 15.645,-1.692 15.747,-1.692 ; 15.645,1.406 15.849,1.406 ; 15.747,1.356 15.849,1.356 ; 16.052,-2.556 16.458,-2.556 ; 16.052,-2.505 16.153,-2.505 ; 16.052,-2.454 16.153,-2.454 ; 16.052,-2.404 16.153,-2.404 ; 16.052,-2.353 16.153,-2.353 ; 16.052,-2.302 16.153,-2.302 ; 16.052,-2.251 16.153,-2.251 ; 16.052,-2.2 16.204,-2.2 ; 16.103,-2.607 16.357,-2.607 ; 16.103,-2.15 16.204,-2.15 ; 16.103,-2.099 16.255,-2.099 ; 16.103,-2.048 16.255,-2.048 ; 16.103,-1.997 16.255,-1.997 ; 16.153,-1.946 16.306,-1.946 ; 16.153,-1.896 16.407,-1.896 ; 16.204,-1.845 16.407,-1.845 ; 16.204,-1.794 16.611,-1.794 ; 16.255,-1.743 16.56,-1.743 ; 16.255,1.457 18.033,1.457 ; 16.255,1.508 18.033,1.508 ; 16.255,1.559 18.033,1.559 ; 16.255,1.61 18.033,1.61 ; 16.255,1.66 18.033,1.66 ; 16.255,1.711 18.033,1.711 ; 16.255,1.762 18.033,1.762 ; 16.255,1.813 18.033,1.813 ; 16.255,1.864 18.033,1.864 ; 16.255,1.914 18.033,1.914 ; 16.255,1.965 18.033,1.965 ; 16.306,-2.505 16.509,-2.505 ; 16.306,1.406 18.033,1.406 ; 16.306,2.016 18.033,2.016 ; 16.407,-2.454 16.56,-2.454 ; 16.407,-1.692 16.458,-1.692 ; 16.458,-2.404 16.611,-2.404 ; 16.509,-2.353 16.661,-2.353 ; 16.509,-1.845 16.661,-1.845 ; 16.56,-2.302 16.661,-2.302 ; 16.56,-2.251 16.712,-2.251 ; 16.56,-1.946 16.712,-1.946 ; 16.56,-1.896 16.712,-1.896 ; 16.611,-2.2 16.712,-2.2 ; 16.611,-2.15 16.712,-2.15 ; 16.611,-2.099 16.712,-2.099 ; 16.611,-2.048 16.712,-2.048 ; 16.611,-1.997 16.712,-1.997 ; 16.611,0.136 17.525,0.136 ; 16.611,0.187 17.525,0.187 ; 16.611,0.238 17.474,0.238 ; 16.611,0.289 17.474,0.289 ; 16.611,0.34 17.474,0.34 ; 16.611,0.39 17.474,0.39 ; 16.611,0.441 17.474,0.441 ; 16.611,0.492 17.474,0.492 ; 16.611,0.543 17.474,0.543 ; 16.611,0.594 17.474,0.594 ; 16.611,0.644 17.474,0.644 ; 16.611,0.695 17.474,0.695 ; 16.611,0.746 17.474,0.746 ; 16.611,0.797 17.474,0.797 ; 16.611,0.848 17.474,0.848 ; 16.611,0.898 17.474,0.898 ; 16.611,0.949 17.474,0.949 ; 16.611,1 17.474,1 ; 16.611,1.051 17.474,1.051 ; 16.611,1.102 17.474,1.102 ; 16.611,1.152 17.474,1.152 ; 16.611,1.203 17.474,1.203 ; 16.611,1.254 17.474,1.254 ; 16.611,1.305 17.474,1.305 ; 16.611,1.356 17.474,1.356 ; 16.611,2.067 17.474,2.067 ; 16.611,2.118 17.474,2.118 ; 16.611,2.168 17.474,2.168 ; 16.611,2.219 17.474,2.219 ; 16.611,2.27 17.474,2.27 ; 16.611,2.321 17.474,2.321 ; 16.611,2.372 17.474,2.372 ; 16.611,2.422 17.474,2.422 ; 16.611,2.473 17.474,2.473 ; 16.661,-0.118 18.033,-0.118 ; 16.661,-0.067 18.033,-0.067 ; 16.661,-0.016 18.033,-0.016 ; 16.661,0.035 18.033,0.035 ; 16.661,0.086 17.627,0.086 ; 16.712,-0.219 18.033,-0.219 ; 16.712,-0.168 18.033,-0.168 ; 16.712,2.524 17.474,2.524 ; 16.763,-0.321 18.033,-0.321 ; 16.763,-0.27 18.033,-0.27 ; 16.814,-0.372 18.033,-0.372 ; 16.865,-0.422 18.033,-0.422 ; 16.915,-2.556 17.017,-2.556 ; 16.915,-2.505 17.017,-2.505 ; 16.915,-2.454 17.068,-2.454 ; 16.915,-2.404 17.068,-2.404 ; 16.915,-2.353 17.068,-2.353 ; 16.915,-2.302 17.068,-2.302 ; 16.915,-2.251 17.068,-2.251 ; 16.915,-2.2 17.068,-2.2 ; 16.915,-2.15 17.068,-2.15 ; 16.915,-2.099 17.119,-2.099 ; 16.915,-2.048 17.119,-2.048 ; 16.915,-1.997 17.169,-1.997 ; 16.915,-1.946 17.017,-1.946 ; 16.915,-1.896 17.017,-1.896 ; 16.915,-1.845 17.017,-1.845 ; 16.915,-1.794 17.017,-1.794 ; 16.915,-1.743 17.017,-1.743 ; 16.915,-1.692 17.017,-1.692 ; 16.915,-1.642 17.017,-1.642 ; 16.915,-1.591 17.017,-1.591 ; 16.915,-1.54 17.017,-1.54 ; 16.915,-1.489 17.017,-1.489 ; 16.915,-1.438 17.017,-1.438 ; 16.915,-1.388 17.017,-1.388 ; 16.915,-1.337 17.017,-1.337 ; 16.915,-0.473 18.033,-0.473 ; 16.915,2.575 17.474,2.575 ; 17.017,-0.524 18.033,-0.524 ; 17.068,-1.946 17.169,-1.946 ; 17.068,-1.896 17.22,-1.896 ; 17.068,2.626 17.474,2.626 ; 17.119,-1.845 17.322,-1.845 ; 17.119,-0.575 17.982,-0.575 ; 17.169,-2.2 17.576,-2.2 ; 17.169,-2.15 17.322,-2.15 ; 17.169,-2.099 17.271,-2.099 ; 17.169,-1.794 17.423,-1.794 ; 17.22,-2.251 17.474,-2.251 ; 17.22,-1.743 17.779,-1.743 ; 17.271,-2.302 17.423,-2.302 ; 17.271,-0.626 17.728,-0.626 ; 17.271,2.676 17.474,2.676 ; 17.322,-2.353 17.474,-2.353 ; 17.322,-1.692 17.728,-1.692 ; 17.373,-2.454 17.576,-2.454 ; 17.373,-2.404 17.474,-2.404 ; 17.423,-2.505 17.627,-2.505 ; 17.423,-2.15 17.677,-2.15 ; 17.474,-2.556 17.931,-2.556 ; 17.525,-2.607 17.931,-2.607 ; 17.525,-2.099 17.728,-2.099 ; 17.627,-2.658 17.83,-2.658 ; 17.627,-2.048 17.779,-2.048 ; 17.677,-1.997 17.83,-1.997 ; 17.677,-1.794 17.83,-1.794 ; 17.728,-1.946 17.83,-1.946 ; 17.728,-1.896 17.83,-1.896 ; 17.728,-1.845 17.83,-1.845 ; 17.83,-2.505 17.982,-2.505 ; 17.881,-2.454 17.982,-2.454 ; 17.931,-2.404 18.033,-2.404
Top Solder:
  drawing of 1352 lines, arcs and shapes, not listed

## FILTER [mm]
pads (4):
  rect 1.1x0.6 smd: 1(-1.35,0) 2(1.35,0) 3(1.35,1.067) 4(-1.35,1.067)
Top Overlay:
  lines w0.1: -2.388,-0.584 2.261,-0.584 2.261,1.651 -2.388,1.651 -2.388,0.712 -2.388,-0.584

## GPS [mm]
pads (22):
  rect 0.7x0.92 smd mask+0.06: 1(5.9,-6.68) 2(4.63,-6.68) 3(3.36,-6.68) 4(2.09,-6.68) 5(0.82,-6.68) 6(-1.72,-6.68) 7(-2.99,-6.68) 8(-4.26,-6.68) 9(-5.53,-6.68) 10(-6.8,-6.68) 11(-6.8,6.32) 12(-5.53,6.32) 13(-4.26,6.32) 14(-2.99,6.32) 15(-1.72,6.32) 16(0.82,6.32) 17(2.09,6.32) 18(3.36,6.32) 19(4.63,6.32) 20(5.9,6.32)
  rect 0.92x0.5 smd mask+0.06: 21(-0.45,-6.68) 22(-0.45,6.32)

## GSM [mm] "Board-to-Board Connector, SMT, Right Angle, Pitch 0.8mm, 52-Position, Female"
pads (58):
  rect 0.6x2 smd mask+0.06: 1(4,1) 2(4.4,9.2) 3(4.8,1) 4(5.2,9.2) 5(5.6,1) 6(6,9.2) 7(6.4,1) 8(6.8,9.2) 9(7.2,1) 10(7.6,9.2) 11(8,1) 12(8.4,9.2) 13(8.8,1) 14(9.2,9.2) 15(9.6,1) 16(10,9.2) 17(13.6,1) 18(14,9.2) 19(14.4,1) 20(14.8,9.2) 21(15.2,1) 22(15.6,9.2) 23(16,1) 24(16.4,9.2) 25(16.8,1) 26(17.2,9.2) 27(17.6,1) 28(18,9.2) 29(18.4,1) 30(18.8,9.2) 31(19.2,1) 32(19.6,9.2) 33(20,1) 34(20.4,9.2) 35(20.8,1) 36(21.2,9.2) 37(21.6,1) 38(22,9.2) 39(22.4,1) 40(22.8,9.2) 41(23.2,1) 42(23.6,9.2) 43(24,1) 44(24.4,9.2) 45(24.8,1) 46(25.2,9.2) 47(25.6,1) 48(26,9.2) 49(26.4,1) 50(26.8,9.2) 51(27.2,1) 52(27.6,9.2)
  round 1.3 hole 1.6 unplated mask+0.06: MH1(3.3,5.1)
  round 0.8 hole 1.1 unplated mask+0.06: MH2(28.3,5.1)
  rect 2.3x3.2 smd mask+0.06: MP1(1.15,1.6) MP2(30.45,1.6)
  round 4 hole 2.9: MP3(27.5,53.2) MP4(1.6,53.2)
Top Overlay:
  circle w0.6: c3.985,-1.288 r0.3
  lines w0.2: 0.675,4.467 0.675,9.7 0.893,9.7 2.462,9.7 ; 29.129,9.7 30.925,9.7 ; 30.925,4.455 30.925,9.635
Mechanical 13:
  lines w0.1: 0.675,1.3 1.775,1.3 ; 0.675,1.302 0.675,9.7 0.893,9.7 3.425,9.7 ; 1.773,0.1 2.8,0.1 2.8,1.3 28.8,1.3 28.8,0.1 29.81,0.1 29.825,0.115 29.825,1.296 ; 1.775,0.1 1.775,1.278 ; 3.425,8.899 3.425,9.699 ; 3.425,8.9 28.175,8.9 28.175,9.701 30.925,9.7 30.925,9.635 30.925,1.304 ; 29.825,1.3 30.925,1.3
Mechanical 15:
  lines w0.1: 15.3,5.1 16.3,5.1 ; 15.8,4.6 15.8,5.6 ; -0.25,-0.25 31.85,-0.25 31.85,3.45 31.175,3.45 31.175,9.95 28.15,9.95 28.15,10.45 3.85,10.45 3.85,9.95 0.425,9.95 0.425,3.45 -0.25,3.45 -0.25,-0.25
3D body: height 0.82, standoff 0.2, extent 28.15,8.9 30.8,9.6
3D body: height 0.82, standoff 0.2, extent 30.8,9.6 30.8,9.6
3D body: height 0.82, standoff 0.2, extent 0.8,8.8 3.45,9.6
3D body: height 1.34, standoff 0.69, extent 27.9,0.85 29.59,1.4
3D body: height 1.34, standoff 0.69, extent 2.01,0.85 3.7,1.4
3D body: height 5.6, standoff 4.54, extent 2.01,0.1 3.7,1.4
3D body: height 5.6, standoff 4.54, extent 27.9,0.1 29.59,1.4
3D body: height 5.6, standoff 3.12, extent 0.8,1.4 30.8,8.777
3D body: height 3.12, standoff 0, extent 0.8,1.4 30.8,8.9

## HEADER10X2 [mil] "HEADER10X2"
pads (20):
  rect 28x113 smd: 1(-225,-106.5) 2(-225,106.5) 3(-175,-106.5) 4(-175,106.5) 5(-125,-106.5) 6(-125,106.5) 7(-75,-106.5) 8(-75,106.5) 9(-25,-106.5) 10(-25,106.5) 11(25,-106.5) 12(25,106.5) 13(75,-106.5) 14(75,106.5) 15(125,-106.5) 16(125,106.5) 17(175,-106.5) 18(175,106.5) 19(225,-106.5) 20(225,106.5)
Top Overlay:
  lines w1: -250,-150 250,-150 250,150 -250,150 -250,-150
  text "20" at 290,115 h31
  text "19" at 295,-160 h31
  text "2" at -255,175 h31
  text "1" at -255,-190 h31

## HEADER,2PİN [mil]
pads (2):
  round 60 hole 40: 1(-100.39,-2.95) 2(-0.39,-2.95)

## HEADER,3PİN [mil]
pads (3):
  round 60 hole 40: 1(-100.39,-2.95) 2(-0.39,-2.95) 3(99.61,-2.95)

## HEADER_1 [mil]
pads (1):
  round 60 hole 40: 1(1,1)

## header_02 [mm]
pads (3):
  round 1.2 hole 0.8: 1(-2,0) 2(0,0) 3(2,0)

## HEADER_4 [mil]
pads (4):
  round 60 hole 40: 1(-165,-4) 2(-65,-4) 3(35,-4) 4(135,-4)

## HEADER_12 [mil]
pads (12):
  round 60 hole 40: 1(-1000,0) 2(-900,0) 3(-800,0) 4(-700,0) 5(-600,0) 6(-500,0) 7(-400,0) 8(-300,0) 9(-200,0) 10(-100,0) 11(0,0) 12(100,0)

## HTQFP_48pin [mm] "HTQFP_48PIN"
pads (49):
  rect 1.45x0.3 smd mask+0.2: 1(-4.2,2.75) 2(-4.2,2.25) 3(-4.2,1.75) 4(-4.2,1.25) 5(-4.2,0.75) 6(-4.2,0.25) 7(-4.2,-0.25) 8(-4.2,-0.75) 9(-4.2,-1.25) 10(-4.2,-1.75) 11(-4.2,-2.25) 12(-4.2,-2.75) 25(4.2,-2.75) 26(4.2,-2.25) 27(4.2,-1.75) 28(4.2,-1.25) 29(4.2,-0.75) 30(4.2,-0.25) 31(4.2,0.25) 32(4.2,0.75) 33(4.2,1.25) 34(4.2,1.75) 35(4.2,2.25) 36(4.2,2.75)
  rect 0.3x1.45 smd mask+0.2: 13(-2.75,-4.2) 14(-2.25,-4.2) 15(-1.75,-4.2) 16(-1.25,-4.2) 17(-0.75,-4.2) 18(-0.25,-4.2) 19(0.25,-4.2) 20(0.75,-4.2) 21(1.25,-4.2) 22(1.75,-4.2) 23(2.25,-4.2) 24(2.75,-4.2) 37(2.75,4.2) 38(2.25,4.2) 39(1.75,4.2) 40(1.25,4.2) 41(0.75,4.2) 42(0.25,4.2) 43(-0.25,4.2) 44(-0.75,4.2) 45(-1.25,4.2) 46(-1.75,4.2) 47(-2.25,4.2) 48(-2.75,4.2)
  rect 3.5x3.5 hole 3 square mask+0.2: 49(0,0)
Top Overlay:
  lines w0.025: -3.4,-3.4 -3.4,3.4 3.4,3.4 3.4,-3.4 -3.4,-3.4
  text "1" at -5.207,3.124 h0.79

## indkrt_2 [mil]
pads (2):
  rect 95x210 smd: 1(-142.5,0) 2(142.5,0)
Top Overlay:
  lines w7.87: -210,-125 220,-125 220,120 -210,120 -210,-26.57 -210,-125

## INDUCTR [mm]
pads (2):
  rect 3x4.9 smd: 1(7,2.44) 2(2,2.44)

## INDUCTR_2 [mm]
pads (2):
  rect 2.5x3 smd: 1(2.174,0.027) 2(-2.064,0.027)

## JTAG,0.254 [mil]
pads (20):
  round 60 hole 40: 1(0,0) 2(0,100) 3(100,0) 4(100,100) 5(200,0) 6(200,100) 7(300,0) 8(300,100) 9(400,0) 10(400,100) 11(500,0) 12(500,100) 13(600,0) 14(600,100) 15(700,0) 16(700,100) 17(800,0) 18(800,100) 19(900,0) 20(900,100)
Top Overlay:
  lines w3.94: 555.12,155 558.58,155 570.87,142.72
  lines w6: 350.39,142.72 362.68,155 555.12,155 ; -41.34,-37.4 -41.34,140.75 941.93,140.75 941.93,-37.4 -41.34,-37.4